# Altium schematic symbol library LED_FADER.SchLib: 6 symbols
Pins are listed as number, name and electrical type; pins without a type are passive.

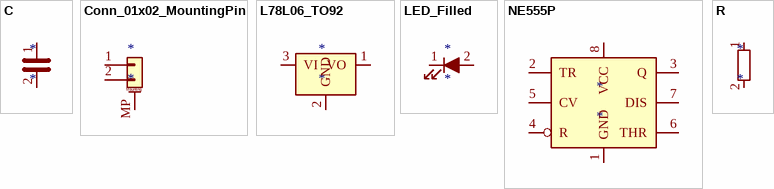
[diagram p0: symbols C to R]

## C
designator *
pins: 1, 2

## Conn_01x02_MountingPin
designator *
pins: 1 Pin_1, 2 Pin_2, MP MountPin
text: Mounting

## L78L06_TO92
designator *
pins: 1 VO, 2 GND, 3 VI

## LED_Filled
designator *
pins: 1 K, 2 A

## NE555P
designator *
pins: 1 GND, 2 TR, 3 Q, 4 R, 5 CV, 6 THR, 7 DIS, 8 VCC

## R
designator *
pins: 1, 2